# EAGLE library part SN74LVC1G123 (library GW-devices)
Mono-stable multivibrator
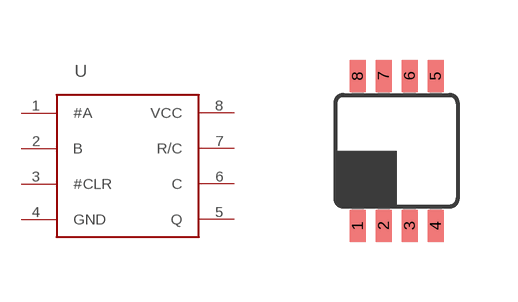
[diagram p29: symbol with the pads of DCT_R-PDSO-G8; footprint DCT_R-PDSO-G8]

Designator prefix -

## SN74LVC1G123  [DCT_R-PDSO-G8]
1  #A
2  B
3  #CLR
4  GND
5  Q
6  C
7  R/C
8  VCC

## Footprint DCT_R-PDSO-G8 (pad centres in mm)
DCT (R-PDSO-G8) PLSTIG SMALL-OUTLINE PACKAGE Source: http://focus.ti.com/lit/ds/symlink/sn74lvc2g53.pdf
smd 0.4 x 0.8: 1 -0.975,-1.875; 2 -0.325,-1.875; 3 0.325,-1.875; 4 0.975,-1.875; 5 0.975,1.875; 6 0.325,1.875; 7 -0.325,1.875; 8 -0.975,1.875